# EAGLE library part L298N (library parts)
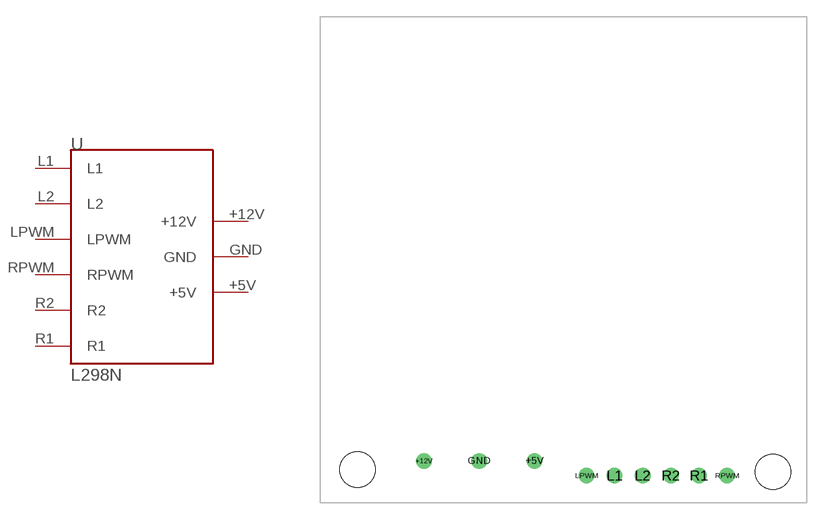
[diagram p0: symbol with the pads of L298N-MOD; footprint L298N-MOD]

Designator prefix -

## L298N  [L298N-MOD]
+5V  +5V
+12V  +12V
GND  GND
L1  L1
L2  L2
LPWM  LPWM
R1  R1
R2  R2
RPWM  RPWM

## Footprint L298N-MOD (pad centres in mm)
drill 0.9: +5V -2.614,-18.202; +12V -12.614,-18.202; GND -7.614,-18.202; L1 4.626,-19.541; L2 7.166,-19.541; LPWM 2.086,-19.541; R1 12.246,-19.541; R2 9.706,-19.541; RPWM 14.786,-19.541
hole 3.2 at -18.601,-18.971
hole 3.2 at 18.93,-19.183